# Altium footprint library eecs52_Tim.PcbLib: 8 footprints
Each footprint in its own frame and in the unit in brackets; x right, y up, seen from the top. Pads: shape width x height; smd on the part's side, far side on the other; paste and mask are expansions set on the pad; w line width, h text height; cw(c..) or ccw(c..) is an arc to the next point about the centre after c.
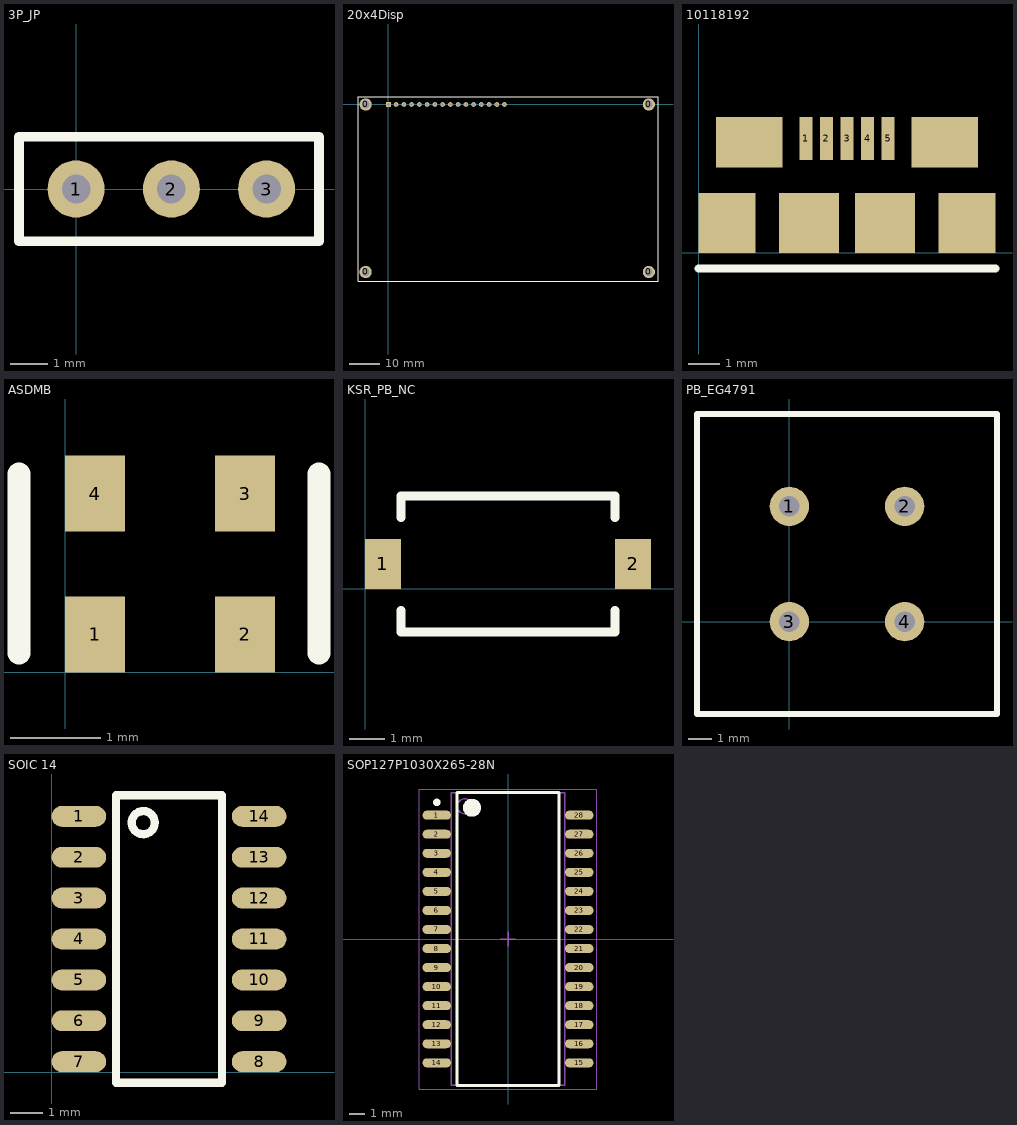
[diagram p0: the footprints below, top view; thin cyan lines are the x and y axes]

## 3P_JP [mil]
pads (3):
  round 60 hole 30: 1(0,0) 2(100,0) 3(200,0)
Top Overlay:
  lines w10: -60,-55 255,-55 255,55 -60,55 -60,18.75 -60,-33.75 -60,-55

## 20x4Disp [mil]
pads (20):
  round 157.48 hole 98.43: 0(-295.28,-2165.35) 0(-295.28,0) 0(3366.14,-2165.35) 0(3366.14,0)
  rect 60x60 hole 40: 1(0,0)
  round 60 hole 40: 2(100,0) 3(200,0) 4(300,0) 5(400,0) 6(500,0) 7(600,0) 8(700,0) 9(800,0) 10(900,0) 11(1000,0) 12(1100,0) 13(1200,0) 14(1300,0) 15(1400,0) 16(1500,0)
Top Overlay:
  lines w10: -393.7,-2283.46 -393.7,98.43 3484.25,98.43 3484.25,-2283.46 -393.7,-2283.46

## 10118192 [mm] "Micro B USB"
pads (11):
  rect 0.4x1.35 smd: 1(3.4,3.625) 2(4.05,3.625) 3(4.7,3.625) 4(5.35,3.625) 5(6,3.625)
  rect 1.8x1.9 smd: ""(0.9,0.95) ""(8.5,0.95)
  rect 2.1x1.6 smd: ""(1.6,3.5) ""(7.8,3.5)
  rect 1.9x1.9 smd: ""(3.5,0.95) ""(5.9,0.95)
Top Overlay:
  lines w0.254: 0,-0.5 9.4,-0.5

## ASDMB [mil] "24MHz Clock"
pads (4):
  rect 26x33 smd: 1(13,16.5) 2(78,16.5) 3(78,77.5) 4(13,77.5)
Top Overlay:
  lines w10: -20,8.5 -20,86 ; 110,8.5 110,86

## KSR_PB_NC [mm] "Pushbutton SPST NC"
pads (2):
  rect 1x1.4 smd: 1(0.5,0.7) 2(7.5,0.7)
Top Overlay:
  lines w0.254: 1,-0.6 1,-1.2 7,-1.2 7,-0.6 ; 1,2 1,2.6 7,2.6 7,2

## PB_EG4791 [mm]
pads (4):
  round 1.7 hole 0.9: 1(0,5) 2(5,5) 3(0,0) 4(5,0)
Top Overlay:
  lines w0.254: -4,-4 9,-4 9,9 -4,9 -4,-4

## SOIC 14 [mm]
pads (14):
  oval 1.7x0.65 smd: 1(0.85,7.945) 2(0.85,6.675) 3(0.85,5.405) 4(0.85,4.135) 5(0.85,2.865) 6(0.85,1.595) 7(0.85,0.325) 8(6.45,0.325) 9(6.45,1.595) 10(6.45,2.865) 11(6.45,4.135) 12(6.45,5.405) 13(6.45,6.675) 14(6.45,7.945)
Top Overlay:
  circle w0.254: c2.85,7.75 r0.359
  lines w0.254: 2,-0.33 5.3,-0.33 5.3,8.6 2,8.6 2,-0.33

## SOP127P1030X265-28N [mm] "SOP, 28-Leads, Body 19.30x7.50mm, Pitch 1.27mm, IPC Medium Density"
height 2.65
pads (28):
  oval 1.9x0.6 smd: 1(-4.75,8.255) 2(-4.75,6.985) 3(-4.75,5.715) 4(-4.75,4.445) 5(-4.75,3.175) 6(-4.75,1.905) 7(-4.75,0.635) 8(-4.75,-0.635) 9(-4.75,-1.905) 10(-4.75,-3.175) 11(-4.75,-4.445) 12(-4.75,-5.715) 13(-4.75,-6.985) 14(-4.75,-8.255) 15(4.75,-8.255) 16(4.75,-6.985) 17(4.75,-5.715) 18(4.75,-4.445) 19(4.75,-3.175) 20(4.75,-1.905) 21(4.75,-0.635) 22(4.75,0.635) 23(4.75,1.905) 24(4.75,3.175) 25(4.75,4.445) 26(4.75,5.715) 27(4.75,6.985) 28(4.75,8.255)
Top Overlay:
  circle w0.25: c-4.75,9.105 r0.125
  circle w0.6: c-2.4,8.75 r0.3
  lines w0.2: -3.4,-9.75 -3.4,9.75 3.4,9.75 3.4,-9.75 -3.4,-9.75
Mechanical 13:
  circle w0.1: c-2.9,8.85 r0.5
  lines w0.1: -3.8,-9.75 -3.8,9.75 3.8,9.75 3.8,-9.75 -3.8,-9.75
Mechanical 15:
  lines w0.05: -5.925,-10 -5.925,10 5.925,10 5.925,-10 -5.925,-10
  lines w0.1: -0.5,0 0.5,0 ; 0,-0.5 0,0.5
3D body: height 2.65, standoff 0.1, extent -3.8,-9.75 3.8,9.75